# Altium schematic symbol library OPA196IDBVR.SchLib: 1 symbol
Pins are listed as number, name and electrical type; pins without a type are passive.

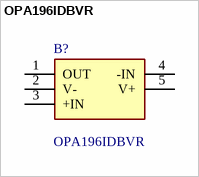
[diagram p0: symbol OPA196IDBVR]

## OPA196IDBVR
designator B?
36V, Low Power, All-Purpose Amplifier with MUX-Friendly Input; Manufacturer_Name: Texas Instruments; Geometry.Height: 1.45mm; Mouser Part Number: 595-OPA196IDBVR; Mouser Price/Stock: https://www.mouser.co.uk/ProductDetail/Texas-Instruments/OPA196IDBVR?qs=EU6FO9ffTwdOeFWwHLQKWg%3D%3D; Manufacturer_Part_Number: OPA196IDBVR; Datasheet Link: http://www.ti.com/lit/gpn/opa196
footprint SOT95P280X145-5N
pins: 1 OUT, 2 V-, 3 +IN, 4 -IN, 5 V+